# Altium integrated library 我的平衡车工程.IntLib: 5 symbols
Pins are listed as number, name and electrical type; pins without a type are passive.

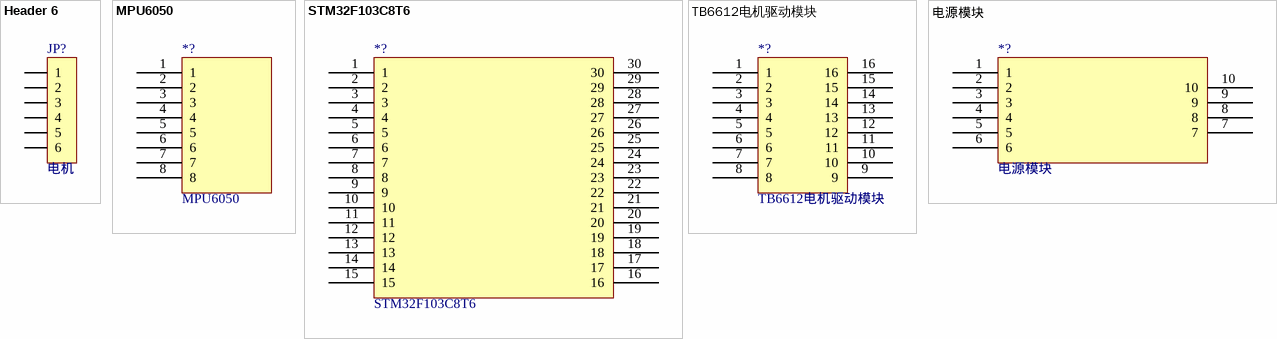
[diagram p0: symbols Header 6 to 电源模块]

## Header 6
designator JP?, comment 电机
6P接插件; 版权归属: 源创客; BOM名称: 6P接插件; 学习资源: www.ooocke.com
footprint XH2.54-WI-6P (接插件，6P)
footprint XH2.54-LI-6P (接插件，6P)
footprint HDR2.54-LI-6P (排针，6脚)
footprint HDR2.54-M-LI-6P (排母，6脚)
footprint HDR2.54-WI-6P (弯脚排针，6脚)
footprint HDR2.54-WS-6P (6P卧式贴片排针2.54)
footprint HDR2.54-Y-LI-6P (圆孔排母，6脚)
footprint HDR2.54-M-WS-6P (6P卧式贴片排母2.54)
footprint KF2510-LI-6P (接插件/2A)
footprint XH2.54-WS-6P (长：20mm，宽：8mm，高：6.1mm)
footprint XH2.54-LS-6P (长：20mm，宽：6mm，高：8.3mm)
footprint KF2EDGK-2.54-LI-6P (长：17.1mm，宽：8.1mm，高：10.1mm)
footprint KF2EDGK-2.54-WI-6P (长：17.1mm，宽：10.1mm，高：8.1mm)
pins: 1, 2, 3, 4, 5, 6

## MPU6050
designator *?
pins: 1, 2, 3, 4, 5, 6, 7, 8

## STM32F103C8T6
designator *?
pins: 1, 2, 3, 4, 5, 6, 7, 8, 9, 10, 11, 12, 13, 14, 15, 16, 17, 18, 19, 20, 21, 22, 23, 24, 25, 26, 27, 28, 29, 30

## TB6612电机驱动模块
designator *?
pins: 1, 2, 3, 4, 5, 6, 7, 8, 9, 10, 11, 12, 13, 14, 15, 16

## 电源模块
designator *?
pins: 1, 2, 3, 4, 5, 6, 7, 8, 9, 10